# Altium footprint library D 电阻.PcbLib: 44 footprints (part 1 of 3)
Each footprint in its own frame and in the unit in brackets; x right, y up, seen from the top. Pads: shape width x height; smd on the part's side, far side on the other; paste and mask are expansions set on the pad; w line width, h text height; cw(c..) or ccw(c..) is an arc to the next point about the centre after c.
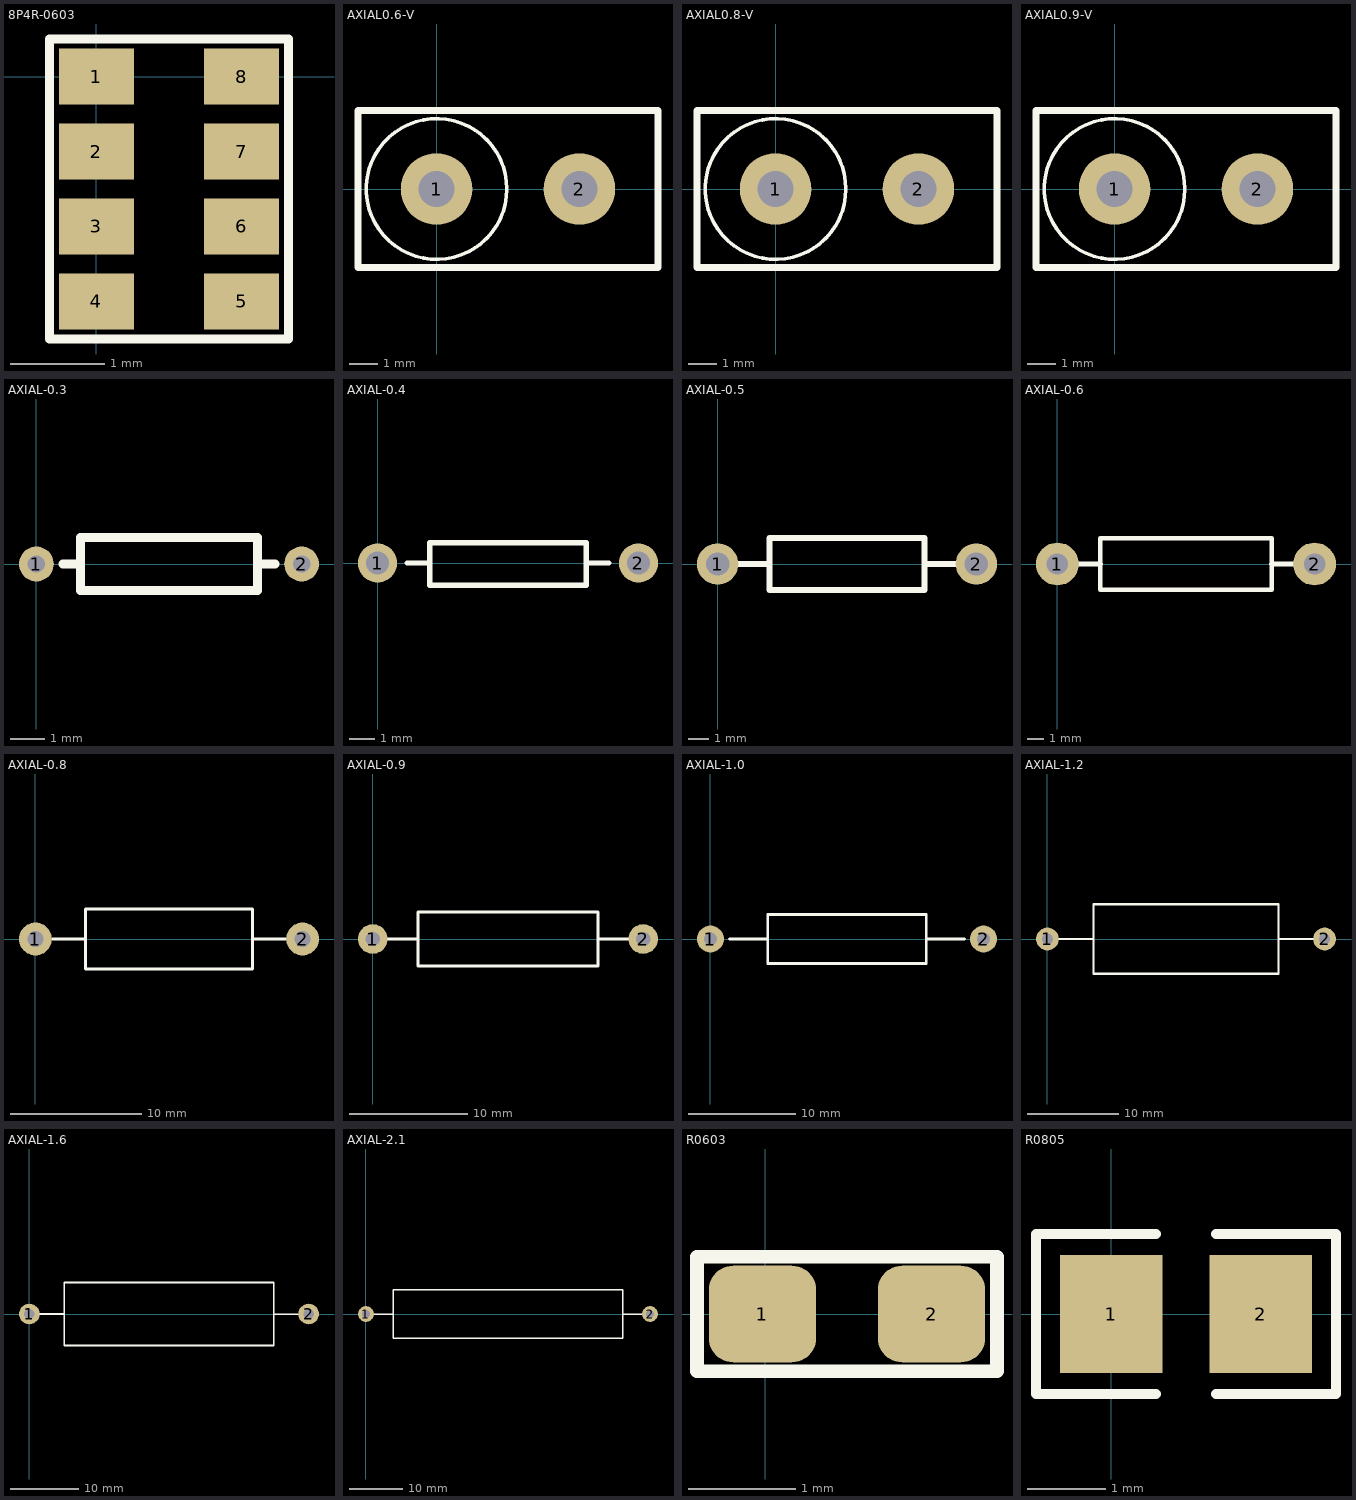
[diagram p0: the footprints below, top view; thin cyan lines are the x and y axes]

## 8P4R-0603 [mm] "8引脚4电阻，长3.2mm，宽1.6mm，高0.5mm"
pads (8):
  rect 0.8x0.6 smd: 1(0,0) 2(0,-0.8) 3(0,-1.6) 4(0,-2.4) 5(1.55,-2.4) 6(1.55,-1.6) 7(1.55,-0.8) 8(1.55,0)
Top Overlay:
  lines w0.1: -0.5,-2.8 2.05,-2.8 2.05,0.4 -0.5,0.4 -0.5,-2.8

## AXIAL0.6-V [mil]
pads (2):
  round 100 hole 50: 1(0,0) 2(200,0)
Top Overlay:
  circle w5: c0,0 r98.42
  lines w10: -110,-110 310,-110 310,110 -100,110 -110,110 -110,-110

## AXIAL0.8-V [mil] "3W电阻立式安装"
pads (2):
  round 100 hole 50: 1(0,0) 2(200,0)
Top Overlay:
  circle w5: c0,0 r98.42
  lines w10: -110,-110 310,-110 310,110 -100,110 -110,110 -110,-110

## AXIAL0.9-V [mil] "3W电阻立式安装"
pads (2):
  round 100 hole 50: 1(0,0) 2(200,0)
Top Overlay:
  circle w5: c0,0 r98.42
  lines w10: -110,-110 310,-110 310,110 -100,110 -110,110 -110,-110

## AXIAL-0.3 [mm] "适用于直插型金属膜电阻、绕线电阻1/8W、1/16W"
pads (2):
  round 1 hole 0.5: 1(0,0) 2(7.62,0)
Top Overlay:
  lines w0.254: 0.762,0 1.143,0 ; 6.858,0 6.35,0 ; 6.35,0 6.35,0.762 1.27,0.762 1.27,-0.762 6.35,-0.762 6.35,0

## AXIAL-0.4 [mil] "适用于直插型金属膜电阻、绕线电阻1/4W"
pads (2):
  round 60 hole 35: 1(0,0) 2(400,0)
Top Overlay:
  lines w8: 45,0 80,0 ; 80,30 80,-34 320,-34 320,31 80,31 ; 320,0 355,0

## AXIAL-0.5 [mil] "适用于直插型金属膜电阻、绕线电阻1/2W"
pads (2):
  round 80 hole 45: 1(0,0) 2(500,0)
Top Overlay:
  lines w12: 40,0 100,0 ; 400,0 460,0 ; 100,-50 100,50 400,50 400,-50 100,-50

## AXIAL-0.6 [mil] "适用于直插型金属膜电阻、绕线电阻1W"
pads (2):
  round 100 hole 50: 1(0,0) 2(600,0)
Top Overlay:
  lines w10: 100,-60 500,-60 500,-50 500,60 120,60 100,60 100,-60
  lines w12: 40,0 100,0 ; 500,0 560,0

## AXIAL-0.8 [mm] "适用于直插型金属膜电阻、绕线电阻2W"
pads (2):
  round 2.5 hole 1.2: 1(0,0) 2(20.32,0)
Top Overlay:
  lines w0.254: 1.27,0 3.683,0 ; 16.51,0 19.685,0 ; 3.81,-2.286 3.81,2.286 16.51,2.286 16.51,-2.286 3.81,-2.286

## AXIAL-0.9 [mm] "适用于直插型金属膜电阻、绕线电阻3W"
pads (2):
  round 2.5 hole 1.2: 1(0,0) 2(22.86,0)
Top Overlay:
  lines w0.254: 0.889,0 3.81,0 ; 19.05,0 22.098,0 ; 3.81,-2.286 3.81,2.286 19.05,2.286 19.05,-2.286 3.81,-2.286

## AXIAL-1.0 [mm] "适用于直插型金属膜电阻、绕线电阻4W"
pads (2):
  round 2.5 hole 1.2: 1(0,0) 2(25.4,0)
Top Overlay:
  lines w0.254: 1.778,0 5.334,0 ; 20.066,0 23.622,0 ; 5.334,0 5.334,-2.286 20.066,-2.286 20.066,2.286 5.334,2.286 5.334,0

## AXIAL-1.2 [mm] "适用于直插型金属膜电阻、绕线电阻5W、6W"
pads (2):
  round 2.5 hole 1.2: 1(0,0) 2(30.48,0)
Top Overlay:
  lines w0.254: 0.762,0 5.08,0 ; 25.4,0 29.718,0 ; 5.08,-3.81 25.4,-3.81 25.4,3.81 5.08,3.81 5.08,-3.81

## AXIAL-1.6 [mm] "适用于直插型金属膜电阻、绕线电阻8W、10W"
pads (2):
  round 3 hole 1.5: 1(0,0) 2(40.64,0)
Top Overlay:
  lines w0.254: 0.762,0 5.08,0 ; 35.535,-4.572 5.08,-4.572 5.08,4.572 35.56,4.572 35.56,-4.572 ; 35.56,-0.025 39.878,-0.025

## AXIAL-2.1 [mm] "适用于直插型金属膜电阻、绕线电阻12W"
pads (2):
  round 3 hole 1.5: 1(0,0) 2(53.34,0)
Top Overlay:
  lines w0.254: 0.762,0 5.08,0 ; 48.235,-0.025 52.553,-0.025 ; 5.08,-4.572 5.08,4.572 48.235,4.572 48.235,-4.572 5.08,-4.572

## R0603 [mm] "适用于贴片电阻0603（1/10W）"
pads (2):
  rrect50% 1x0.9 smd: 1(-0.025,0) 2(1.549,0)
Top Overlay:
  lines w0.127: -0.635,-0.533 2.159,-0.533 2.159,0.533 -0.635,0.533 -0.635,-0.533

## R0805 [mm] "适用于贴片电阻0805（1/8W）"
pads (2):
  rect 1.3x1.5 smd: 1(0,0) 2(1.9,0)
Top Overlay:
  lines w0.127: 0.569,-1.016 -0.955,-1.016 -0.955,1.016 0.569,1.016 ; 1.331,-1.016 2.855,-1.016 2.855,1.016 1.331,1.016